# EAGLE library part DPQC2 (library opto)
Quadrant photo diode, 2 common cathodes
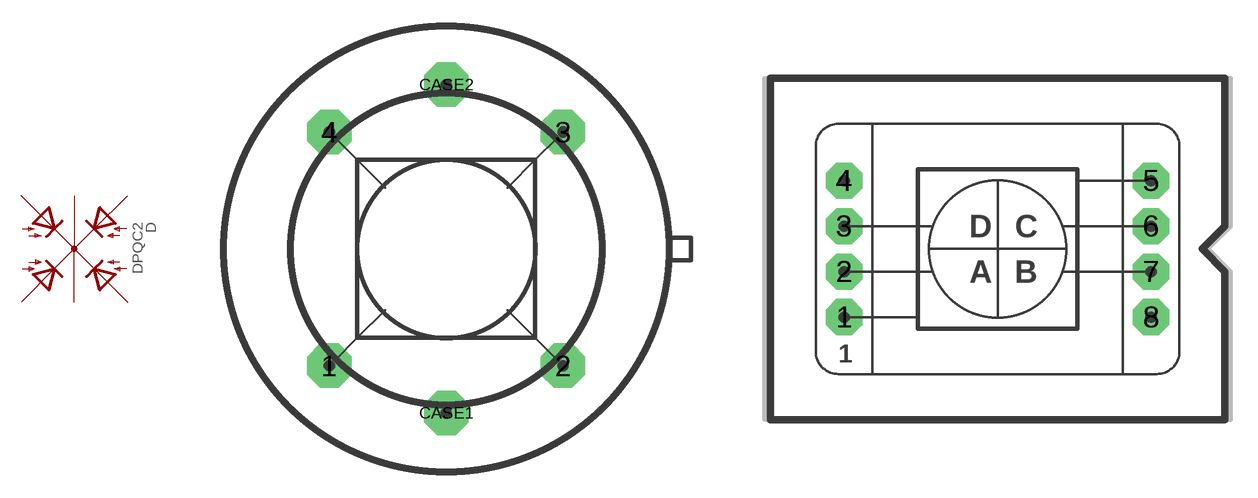
[diagram p3: symbol with the pads of DPQ03; footprints DPQ03, DPQ8AU1]

Designator prefix D

## DPQC2  [DPQ03]
1  A1  pas
2  A2  pas
3  A3  pas
4  A4  pas
CASE1  C1  pas
CASE2  C2  pas

## DPQC28AU1  [DPQ8AU1]
1  C1  pas
2  A1  pas
3  A4  pas
5  C2  pas
6  A3  pas
7  A2  pas

## Footprint DPQ03 (pad centres in mm)
drill 0.813 pad 2.54 octagon: 1 -6.668,-6.668; 2 6.668,-6.668; 3 6.668,6.668; 4 -6.668,6.668; CASE1 0,-9.366; CASE2 0,9.366

## Footprint DPQ8AU1 (pad centres in mm)
8a (U1): Quadrant photo diode (Silicon Sensor)
drill 0.813 pad 2.032 octagon: 1 0,0; 2 0,2.54; 3 0,5.08; 4 0,7.62; 5 17.145,7.62; 6 17.145,5.08; 7 17.145,2.54; 8 17.145,0